# EAGLE library part JS202011JAQN (library forkbomb19)
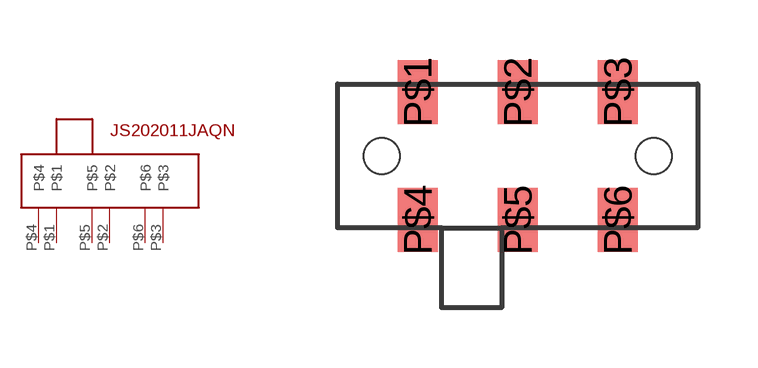
[diagram p6: symbol with the pads of JS202011JAQN; footprint JS202011JAQN]

Designator prefix -

## JS202011JAQN  [JS202011JAQN]
P$1  P$1
P$2  P$2
P$3  P$3
P$4  P$4
P$5  P$5
P$6  P$6

## Footprint JS202011JAQN (pad centres in mm)
smd 1 x 1.6: P$1 -2.5,1.6; P$2 0,1.6; P$3 2.5,1.6; P$4 -2.5,-1.6; P$5 0,-1.6; P$6 2.5,-1.6
hole 0.9 at -3.4,0
hole 0.9 at 3.4,0